# EAGLE library part HD74HC08 (library IC)
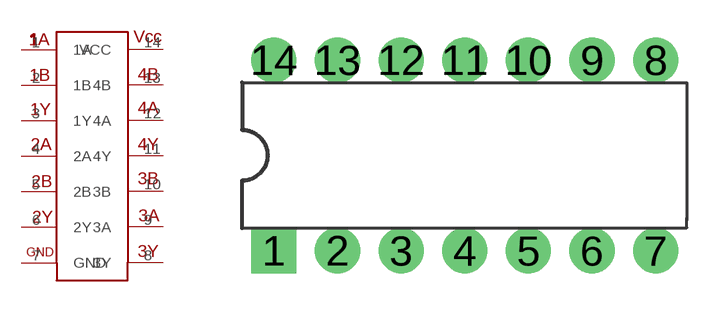
[diagram p0: symbol with the pads of DIL14; footprint DIL14]

Designator prefix -

## HD74HC08  [DIL14]
1  1A
2  1B
3  1Y
4  2A
5  2B
6  2Y
7  GND
8  3Y
9  3A
10  3B
11  4Y
12  4A
13  4B
14  VCC

## Footprint DIL14 (pad centres in mm)
Dual In Line Package
drill 1 pad 1.8 square: 1 -7.62,-3.81
drill 1 pad 1.8: 2 -5.08,-3.81; 3 -2.54,-3.81; 4 0,-3.81; 5 2.54,-3.81; 6 5.08,-3.81; 7 7.62,-3.81; 8 7.62,3.81; 9 5.08,3.81; 10 2.54,3.81; 11 0,3.81; 12 -2.54,3.81; 13 -5.08,3.81; 14 -7.62,3.81